# Altium footprint library Optoisolator.PcbLib: 4 footprints
Each footprint in its own frame and in the unit in brackets; x right, y up, seen from the top. Pads: shape width x height; smd on the part's side, far side on the other; paste and mask are expansions set on the pad; w line width, h text height; cw(c..) or ccw(c..) is an arc to the next point about the centre after c.
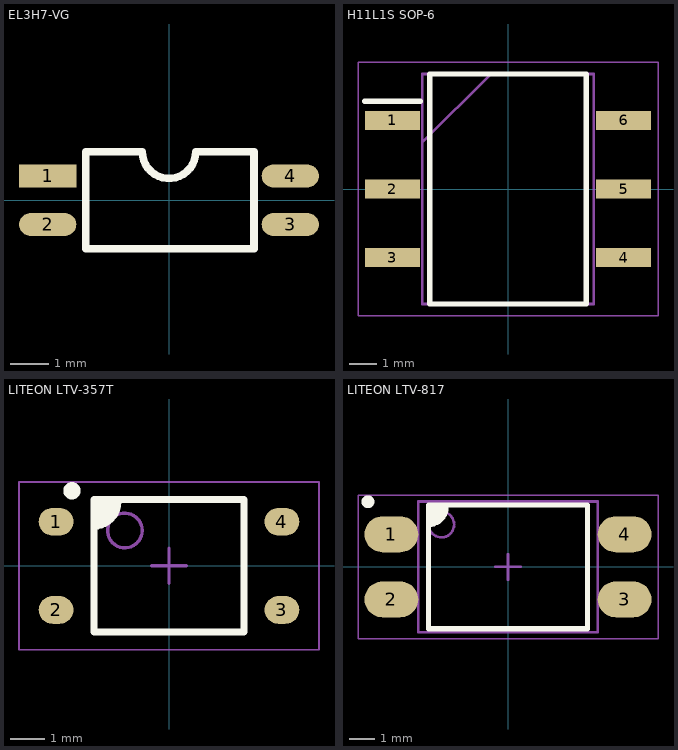
[diagram p0: the footprints below, top view; thin cyan lines are the x and y axes]

## EL3H7-VG [mm]
pads (4):
  rect 1.5x0.6 smd: 1(-3.175,0.635)
  oval 1.5x0.6 smd: 2(-3.175,-0.635) 3(3.175,-0.635) 4(3.175,0.635)
Top Overlay:
  lines w0.2: -2.175,-1.27 2.225,-1.27 2.225,1.27 0.7,1.27 cw(c0,1.27) -0.7,1.27 -2.175,1.27 -2.175,-1.27
3D body "EL3H7-VG.step": height 2, standoff -0.02, extent -3.45,-1.375 3.55,1.325

## H11L1S SOP-6 [mm]
height 4.3
pads (6):
  rect 2.05x0.7 smd: 1(-4.275,2.54) 2(-4.275,0) 3(-4.275,-2.54) 4(4.275,-2.54) 5(4.275,0) 6(4.275,2.54)
Top Overlay:
  lines w0.2: -5.3,3.24 -3.25,3.24 ; -2.9,-4.255 2.9,-4.255 2.9,4.255 -2.9,4.255 -2.9,-4.255
Mechanical 13:
  lines w0.1: -3.175,1.715 -0.635,4.255 ; -3.175,-4.255 3.175,-4.255 3.175,4.255 -3.175,4.255 -3.175,-4.255
Mechanical 15:
  lines w0.05: -5.55,-4.695 5.55,-4.695 5.55,4.695 -5.55,4.695 -5.55,-4.695
3D body "H11L1SVM.stp": height 5.08, standoff 0, extent -4.583,-4.255 4.583,4.255

## LITEON LTV-357T [mm] "SOP, 4-Leads, Body 3.85x4.4mm, Pitch 2.54mm, IPC Medium Density"
height 2.1
pads (4):
  oval 1x0.8 smd: 1(-3.25,1.27) 2(-3.25,-1.27) 3(3.25,-1.27) 4(3.25,1.27)
Top Overlay:
  circle w0.25: c-2.794,2.159 r0.125
  region: -2.159,1.905 -1.472,1.905 -1.472,1.524 -1.853,1.143 -2.159,1.143
  lines w0.2: -2.159,1.143 ccw(c-2.159,1.83) -1.472,1.83 ; -2.159,-1.905 -2.159,1.905 2.159,1.905 2.159,-1.905 -2.159,-1.905
Mechanical 13:
  circle w0.1: c-1.27,1.016 r0.5
  lines w0.1: -2.159,-1.905 -2.159,1.905 2.159,1.905 2.159,-1.905 -2.159,-1.905
Mechanical 15:
  lines w0.05: -4.318,-2.413 -4.318,2.413 4.318,2.413 4.318,-2.413 -4.318,-2.413
  lines w0.1: -0.5,0 0.5,0 ; 0,-0.5 0,0.5
3D body "LTV-357T.STEP": height 2.1, standoff 0, extent -3.514,-1.925 3.514,1.925

## LITEON LTV-817 [mm] "SOP, 4-Leads, Body 4.60x6.50mm, Pitch 2.54mm, IPC Medium Density"
height 4.35
pads (4):
  oval 2.1x1.4 smd: 1(-4.55,1.27) 2(-4.55,-1.27) 3(4.55,-1.27) 4(4.55,1.27)
Top Overlay:
  circle w0.25: c-5.461,2.54 r0.125
  region: -3.1,2.413 -2.413,2.413 -2.413,2.032 -2.794,1.651 -3.1,1.651
  lines w0.2: -3.1,1.651 ccw(c-3.1,2.338) -2.413,2.338 ; -3.1,-2.413 -3.1,2.413 3.1,2.413 3.1,-2.413 -3.1,-2.413
Mechanical 13:
  circle w0.1: c-2.6,1.65 r0.5
  lines w0.1: -3.5,-2.55 -3.5,2.55 3.5,2.55 3.5,-2.55 -3.5,-2.55
Mechanical 15:
  lines w0.05: -5.85,-2.8 -5.85,2.8 5.85,2.8 5.85,-2.8 -5.85,-2.8
  lines w0.1: -0.5,0 0.5,0 ; 0,-0.5 0,0.5
3D body "LTV-817S.STEP": height 3.85, standoff 0, extent -5.098,-2.3 5.098,2.3